# Altium schematic symbol library SCH - POWER - SWITCHMODE - TI TPS62097RWK.SchLib: 1 symbol
Pins are listed as number, name and electrical type; pins without a type are passive.

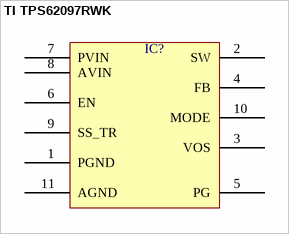
[diagram p0: symbol TI TPS62097RWK]

## TI TPS62097RWK
designator IC?  (value not drawn)
pins: 1 PGND, 2 SW, 3 VOS, 4 FB, 5 PG, 6 EN, 7 PVIN, 8 AVIN, 9 SS_TR, 10 MODE, 11 AGND